# Altium footprint library AX309.PcbLib: 32 footprints (part 2 of 2)
Each footprint in its own frame and in the unit in brackets; x right, y up, seen from the top. Pads: shape width x height; smd on the part's side, far side on the other; paste and mask are expansions set on the pad; w line width, h text height; cw(c..) or ccw(c..) is an arc to the next point about the centre after c.
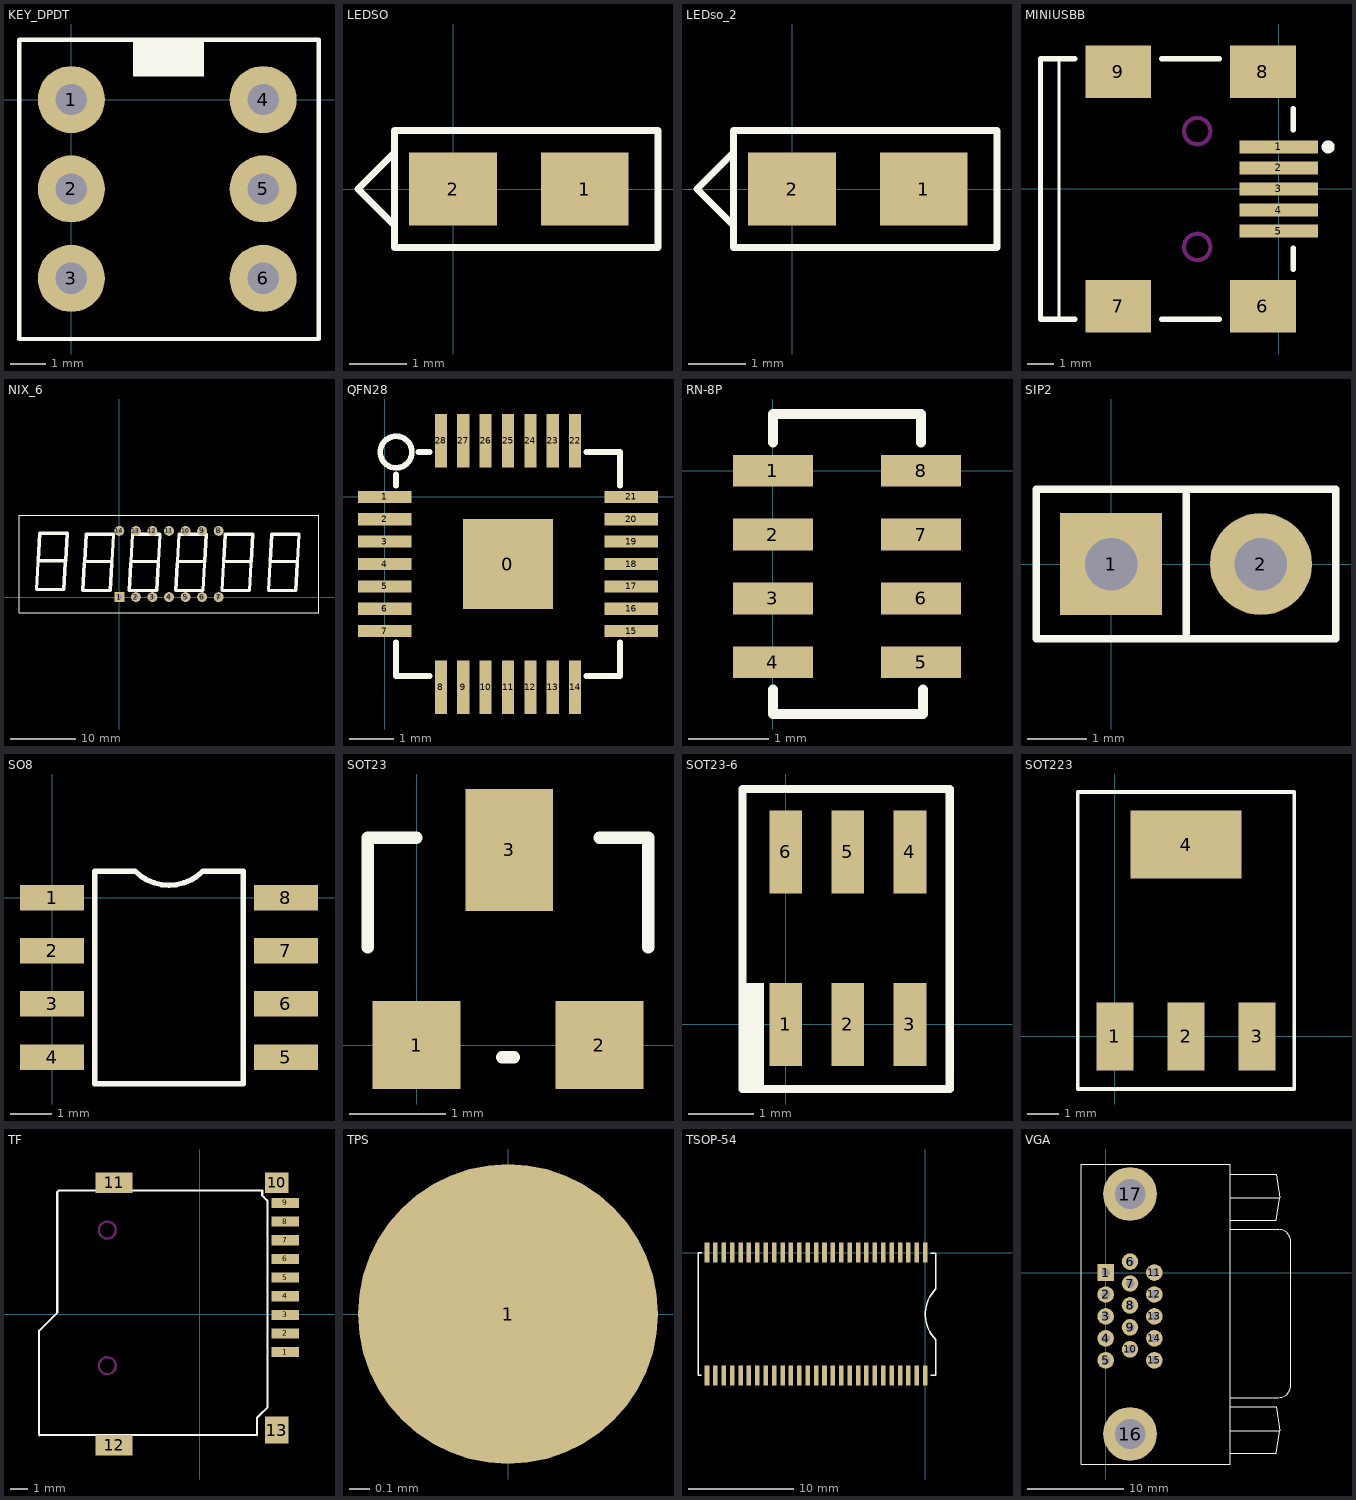
[diagram p1: the footprints below, top view; thin cyan lines are the x and y axes]

## KEY_DPDT [mil]
height 62.99
pads (6):
  round 75 hole 35: 1(0,0) 2(0,-100) 3(0,-200) 4(214.57,0) 5(214.57,-100) 6(214.57,-200)
Top Overlay:
  rectangle: 69.29,25.85 148.29,67.69
  lines w5: -58.05,-267.81 -58.05,66.83 276.59,66.83 276.59,-267.81 -58.05,-267.81

## LEDSO [mil]
height 179.92
pads (2):
  rect 60x50 smd: 1(90,0) 2(0,0)
Top Overlay:
  lines w5: -40,-25 -65,0 -40,25 ; -40,-40 -40,40 140,40 140,-35 140,-40 -40,-40

## LEDso_2 [mil]
pads (2):
  rect 60x50 smd: 1(90,0) 2(0,0)
Top Overlay:
  lines w5: -40,-25 -65,0 -40,25 ; -40,-40 -40,40 140,40 140,-35 140,-40 -40,-40

## MINIUSBB [mm]
pads (9):
  rect 3x0.5 smd: 1(0,1.6) 2(0,0.8) 3(0,0) 4(0,-0.8) 5(0,-1.6)
  rect 2.5x2 smd: 6(-0.6,-4.45) 7(-6.1,-4.45) 8(-0.6,4.45) 9(-6.1,4.45)
Top Overlay:
  circle w0.25: c1.875,1.6 r0.125
  lines w0.1: -8.35,-4.95 -8.35,4.95
  lines w0.2: -7.75,-4.95 -9.05,-4.95 -9.05,4.95 -7.75,4.95 ; -4.45,-4.95 -2.25,-4.95 ; -4.45,4.95 -2.25,4.95 ; 0.55,-3.05 0.55,-2.25 ; 0.55,2.25 0.55,3.05
Keep-Out Layer:
  circle w0.152: c-3.1,-2.2 r0.5
  circle w0.152: c-3.1,2.2 r0.5

## NIX_6 [mil]
height 501.97
pads (14):
  rect 60x60 hole 30: 1(0,0)
  round 60 hole 30: 2(100,0) 3(200,0) 4(300,0) 5(400,0) 6(500,0) 7(600,0) 8(600,400) 9(500,400) 10(400,400) 11(300,400) 12(200,400) 13(100,400) 14(0,400)
Top Overlay:
  lines w5: -605.51,-95.28 1205.51,-95.28 1205.51,495.28 -605.51,495.28 -605.51,-95.28
  lines w19.68: -490.94,210.71 -500,45.35 -334.65,45.35 -325.59,210.71 ; -210.94,205.35 -220,40 -54.65,40 -45.59,205.35 ; 69.06,205.35 60,40 225.35,40 234.41,205.35 ; 349.06,205.35 340,40 505.35,40 514.41,205.35 ; 629.06,205.35 620,40 785.35,40 794.41,205.35 ; 909.06,205.35 900,40 1065.35,40 1074.41,205.35 ; -489.06,220 -323.7,220 -314.65,385.35 -480,385.35 -489.06,220 ; -209.06,214.65 -43.7,214.65 -34.65,380 -200,380 -209.06,214.65 ; 70.94,214.65 236.3,214.65 245.35,380 80,380 70.94,214.65 ; 350.94,214.65 516.3,214.65 525.35,380 360,380 350.94,214.65 ; 630.94,214.65 796.3,214.65 805.35,380 640,380 630.94,214.65 ; 910.94,214.65 1076.3,214.65 1085.35,380 920,380 910.94,214.65
  text "." at -267,32 h200
  text "." at 10,34 h200
  text "." at 297,30 h200
  text "." at 576,30 h200
  text "." at 858,28 h200
  text "." at 1140,30 h200

## QFN28 [mm]
height 12.75
pads (29):
  rect 2x2 smd: 0(2.75,-1.5)
  rect 1.2x0.27 smd: 1(0,0) 2(0,-0.5) 3(0,-1) 4(0,-1.5) 5(0,-2) 6(0,-2.5) 7(0,-3) 15(5.5,-3) 16(5.5,-2.5) 17(5.5,-2) 18(5.5,-1.5) 19(5.5,-1) 20(5.5,-0.5) 21(5.5,0)
  rect 0.27x1.2 smd: 8(1.25,-4.25) 9(1.75,-4.25) 10(2.25,-4.25) 11(2.75,-4.25) 12(3.25,-4.25) 13(3.75,-4.25) 14(4.25,-4.25) 22(4.25,1.25) 23(3.75,1.25) 24(3.25,1.25) 25(2.75,1.25) 26(2.25,1.25) 27(1.75,1.25) 28(1.25,1.25)
Top Overlay:
  circle w0.127: c0.25,1 r0.354
  lines w0.127: 0.25,-3.25 0.25,-4 1,-4 ; 0.25,0.25 0.25,0.5 ; 0.75,1 1,1 ; 4.5,-4 5.25,-4 5.25,-3.25 ; 4.5,1 5.25,1 5.25,0.25

## RN-8P [mm]
height 4.57
pads (8):
  rect 1x0.4 smd: 1(0,0) 2(0,-0.8) 3(0,-1.6) 4(0,-2.4) 5(1.858,-2.4) 6(1.858,-1.6) 7(1.858,-0.8) 8(1.858,0)
Top Overlay:
  lines w0.127: 0,-2.743 0,-2.896 0,-3.048 1.88,-3.048 1.88,-2.896 1.88,-2.743 ; 0,0.356 0,0.533 0,0.711 1.854,0.711 1.854,0.533 1.854,0.356

## SIP2 [mil]
height 179.92
pads (2):
  rect 68x68 hole 35: 1(0,0)
  round 68 hole 35: 2(100,0)
Top Overlay:
  lines w5: 50,-50 50,50 ; -50,-50 -50,50 150,50 150,-50 -50,-50

## SO8 [mil]
height 179.92
pads (8):
  rect 60x24 smd: 1(0,0) 2(0,-50) 3(0,-100) 4(0,-150) 5(220,-150) 6(220,-100) 7(220,-50) 8(220,0)
Top Overlay:
  lines w5: 40,-175 40,25 78,25 ccw(c110,57) 142,25 180,25 180,-175 40,-175

## SOT23 [mil]
height 179.92
pads (3):
  rect 36x36 smd: 1(0,0) 2(75,0)
  rect 36x50 smd: 3(38,80)
Top Overlay:
  lines w5: -20,40 -20,85 0,85 ; 35,-5 40,-5 ; 75,85 95,85 95,40

## SOT23-6 [mm]
height 4.57
pads (6):
  rect 0.5x1.27 smd: 1(0,0) 2(0.95,0) 3(1.905,0) 4(1.905,2.642) 5(0.95,2.642) 6(0,2.642)
Top Overlay:
  rectangle: -0.66,-0.991 -0.33,0.635
  lines w0.127: -0.66,-0.991 2.515,-0.991 2.515,3.607 -0.66,3.607 -0.66,-0.991

## SOT223 [mm]
pads (4):
  rect 1.2x2.2 smd: 1(0,0) 2(2.3,0) 3(4.6,0)
  rect 3.6x2.2 smd: 4(2.3,6.2)
Top Overlay:
  lines w0.127: -1.2,-1.7 -1.2,7.9 5.8,7.9 5.8,-1.7 -1.2,-1.7

## TF [mm]
height 1.55
pads (13):
  rect 1.6x0.6 smd: 1(5.05,-2.25) 2(5.05,-1.15) 3(5.05,-0.05) 4(5.05,1.05) 5(5.05,2.15) 6(5.05,3.25) 7(5.05,4.35) 8(5.05,5.45) 9(5.05,6.55)
  rect 1.4x1.2 smd: 10(4.55,7.75)
  rect 2.2x1.2 smd: 11(-5.05,7.75) 12(-5.05,-7.75)
  rect 1.4x1.6 smd: 13(4.55,-6.85)
Top Overlay:
  lines w0.127: -9.47,-7.13 -9.47,-0.988 -8.403,0.079 -8.403,7.191 -8.301,7.293 3.688,7.293 3.688,6.988 3.789,6.886 4.009,6.667 4.009,-5.493 3.586,-5.915 3.383,-6.118 3.383,-7.134 -9.45,-7.15
Keep-Out Layer:
  circle w0.127: c-5.45,-3.05 r0.5
  circle w0.127: c-5.45,4.951 r0.5

## TPS [mm]
pads (1):
  round 1.5 smd mask+0.5: 1(0,0)

## TSOP-54 [mil]
height 501.97
pads (54):
  rect 17x75 smd: 1(0,0) 2(-31.5,0) 3(-62.99,0) 4(-94.49,0) 5(-125.98,0) 6(-157.48,0) 7(-188.98,0) 8(-220.47,0) 9(-251.97,0) 10(-283.46,0) 11(-314.99,0) 12(-346.46,0) 13(-377.95,0) 14(-409.45,0) 15(-440.94,0) 16(-472.44,0) 17(-503.94,0) 18(-535.43,0) 19(-566.93,0) 20(-598.43,0) 21(-629.92,0) 22(-661.42,0) 23(-692.91,0) 24(-724.41,0) 25(-755.91,0) 26(-787.4,0) 27(-818.9,0) 28(-818.9,-460) 29(-787.4,-460) 30(-755.91,-460) 31(-724.41,-460) 32(-692.91,-460) 33(-661.42,-460) 34(-630,-460) 35(-598.43,-460) 36(-566.93,-460) 37(-535.43,-460) 38(-503.94,-460) 39(-472.44,-460) 40(-440.94,-460) 41(-409.45,-460) 42(-377.95,-460) 43(-346.46,-460) 44(-314.99,-460) 45(-283.46,-460) 46(-251.97,-460) 47(-220.47,-460) 48(-188.98,-460) 49(-157.48,-460) 50(-125.98,-460) 51(-94.49,-460) 52(-62.99,-460) 53(-31.5,-460) 54(0,-460)
Top Overlay:
  lines w5: -840,-460 -852,-460 -852,0 -838,0 ; 20,-460 40,-460 40,-326 cw(c135,-231) 40,-136 40,-2 20,-2

## VGA [mil]
height 62.99
pads (17):
  rect 68x68 hole 35: 1(0,0)
  round 68 hole 35: 2(0,-90) 3(0,-180) 4(0,-270) 5(0,-360) 6(100,45) 7(100,-45) 8(100,-135) 9(100,-225) 10(100,-315) 11(200,0) 12(200,-90) 13(200,-180) 14(200,-270) 15(200,-360)
  round 220 hole 125: 16(100,-662) 17(100,322)
Top Overlay:
  lines w5: 510,-504 510,136 ; 510.24,441 510.24,445 ; 511,-740 699,-740 713,-648 ; 511,-648 713,-648 ; 511,-550 699,-550 713,-648 ; 511,-512.49 709,-512.49 ccw(c709,-462.49) 759,-462.49 759,126.49 ccw(c709,126.49) 709,176.49 511,176.49 ; 511,214 699,214 713,306 ; 511,306 713,306 ; 511,404 699,404 713,306 ; 510.24,445 510.24,-785 -100,-785 -100,445 510.24,445